# Altium schematic symbol library 摄像头转接板 原理图封装库.SCHLIB: 2 symbols
Pins are listed as number, name and electrical type; pins without a type are passive.

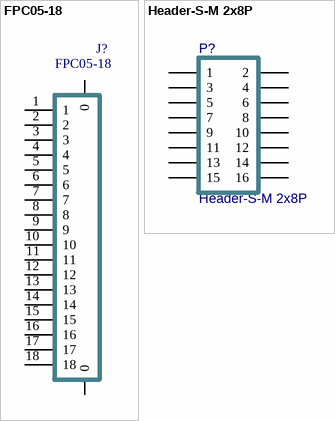
[diagram p0: symbols FPC05-18 to Header-S-M 2x8P]

## FPC05-18
designator J?
18P fpc插座 0.5mm间距
footprint fpc_05_18p
footprint fpc_05_18p_F (0.5mm间距 18P FPC 翻盖 软排线座)
pins: 0, 0, 1, 2, 3, 4, 5, 6, 7, 8, 9, 10, 11, 12, 13, 14, 15, 16, 17, 18

## Header-S-M 2x8P
designator P?
2x8pin, 贴片, 双排针; Revision: V1.0; Value: Header-S-M 2x8P
footprint HDR2X8-M-SMT (2x8pin, 2.54mm间距, SMT, 直排针)
pins: 1, 2, 3, 4, 5, 6, 7, 8, 9, 10, 11, 12, 13, 14, 15, 16